# Altium footprint library Components.PcbLib: 155 footprints (part 9 of 10)
Each footprint in its own frame and in the unit in brackets; x right, y up, seen from the top. Pads: shape width x height; smd on the part's side, far side on the other; paste and mask are expansions set on the pad; w line width, h text height; cw(c..) or ccw(c..) is an arc to the next point about the centre after c.
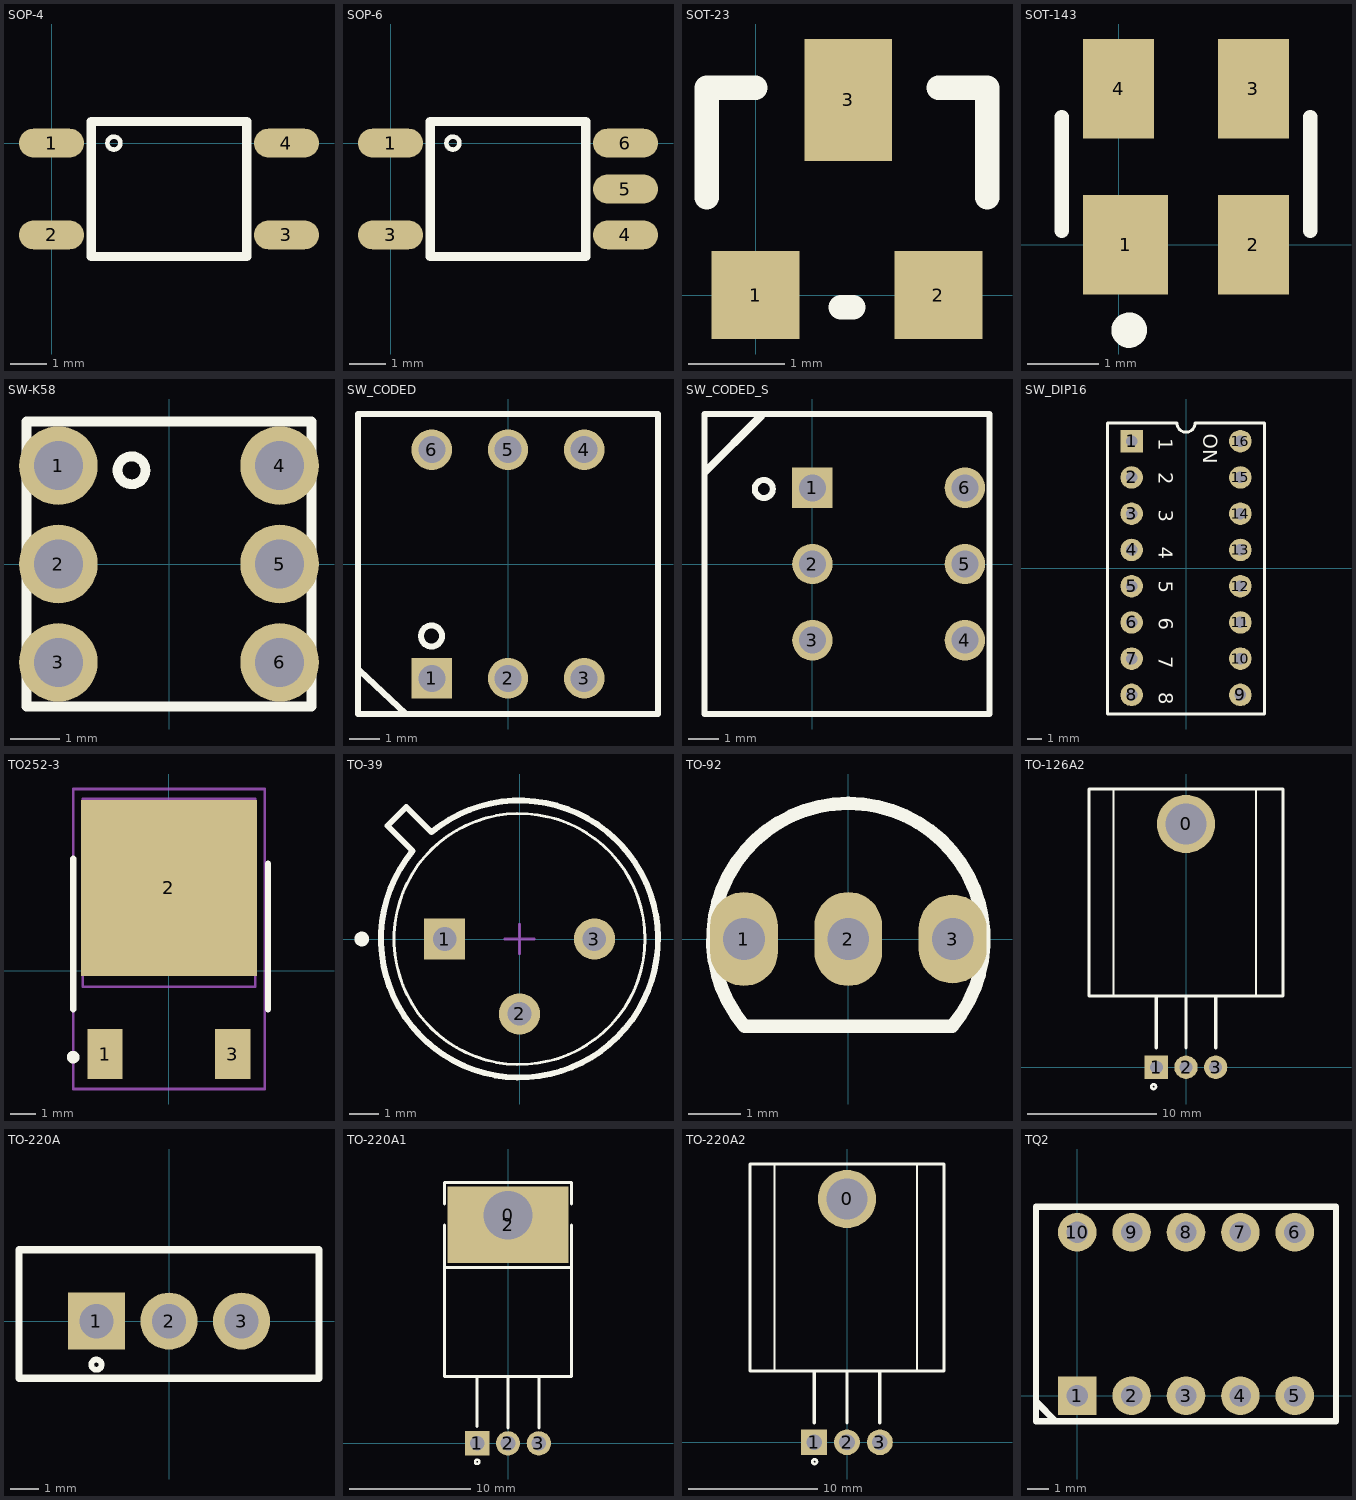
[diagram p8: the footprints below, top view; thin cyan lines are the x and y axes]

## SOP-4 [mm]
pads (4):
  oval 1.8x0.8 smd: 1(0,0) 2(0,-2.54) 3(6.5,-2.54) 4(6.5,0)
Top Overlay:
  circle w0.127: c1.725,0 r0.18
  lines w0.254: 1.1,-3.14 5.4,-3.14 5.4,0.6 1.1,0.6 1.1,-3.14

## SOP-6 [mm]
pads (5):
  oval 1.8x0.8 smd: 1(0,0) 3(0,-2.54) 4(6.5,-2.54) 5(6.5,-1.27) 6(6.5,0)
Top Overlay:
  circle w0.127: c1.725,0 r0.18
  lines w0.254: 1.1,-3.14 1.1,0.6 5.4,0.6 5.4,-3.14 1.1,-3.14

## SOT-23 [mil]
pads (3):
  rect 36x36 smd: 1(0,0) 2(75,0)
  rect 36x50 smd: 3(38,80)
Top Overlay:
  lines w10: -20,40 -20,85 0,85 ; 35,-5 40,-5 ; 75,85 95,85 95,40

## SOT-143 [mm]
pads (4):
  rect 1.2x1.4 smd: 1(0.1,0)
  rect 1x1.4 smd: 2(1.9,0) 3(1.9,2.2) 4(0,2.2)
Top Overlay:
  circle w0.25: c0.15,-1.2 r0.125
  lines w0.2: -0.8,0.2 -0.8,1.8 ; 2.7,0.2 2.7,1.8

## SW-K58 [mm] "SW-K58"
pads (6):
  round 1.6 hole 1: 1(-2.25,2) 2(-2.25,0) 3(-2.25,-2) 4(2.25,2) 5(2.25,0) 6(2.25,-2)
Top Overlay:
  circle w0.2: c-0.762,1.905 r0.284
  lines w0.2: -2.9,-2.9 2.9,-2.9 2.9,2.9 -2.9,2.9 -2.9,-2.9

## SW_CODED [mm] "Rotary Coded Switch"
pads (6):
  rect 1.35x1.35 hole 0.9: 1(-2.54,-3.81)
  round 1.35 hole 0.9: 2(0,-3.81) 3(2.54,-3.81) 4(2.54,3.81) 5(0,3.81) 6(-2.54,3.81)
Top Overlay:
  circle w0.2: c-2.55,-2.4 r0.35
  lines w0.2: -5,-5 5,-5 5,5 -5,5 -5,-4.97 ; -4.953,-3.55 -3.4,-5

## SW_CODED_S [mm]
pads (6):
  rect 1.35x1.35 hole 0.9: 1(0,2.54)
  round 1.35 hole 0.9: 2(0,0) 3(0,-2.54) 4(5.08,-2.54) 5(5.08,0) 6(5.08,2.54)
Top Overlay:
  circle w0.2: c-1.624,2.5 r0.3
  lines w0.2: -3.6,-5 5.9,-5 5.9,5 -3.6,5 -3.6,-5
  lines w0.254: -3.575,3.075 -1.7,4.95

## SW_DIP16 [mil]
pads (16):
  rect 62x62 hole 31.5: 1(-150,350)
  round 62 hole 31.5: 2(-150,250) 3(-150,150) 4(-150,50) 5(-150,-50) 6(-150,-150) 7(-150,-250) 8(-150,-350) 9(150,-350) 10(150,-250) 11(150,-150) 12(150,-50) 13(150,50) 14(150,150) 15(150,250) 16(150,350)
Top Overlay:
  lines w8: -216.93,-402.76 216.93,-402.76 216.93,400 25,400 cw(c0,400) -25,400 -216.93,400 -216.93,-402.76
  text "1" at -74.8,358.27 h39.37
  text "2" at -74.8,263.78 h39.37
  text "3" at -74.8,161.42 h39.37
  text "4" at -74.8,59.06 h39.37
  text "5" at -74.8,-35.43 h39.37
  text "6" at -74.8,-137.8 h39.37
  text "7" at -74.8,-244.09 h39.37
  text "8" at -74.8,-342.52 h39.37
  text "ON" at 47.24,370.08 h39.37

## TO252-3 [mm] "D2-PAK"
height 4.69
pads (3):
  rect 1.4x2 smd: 1(-2.54,-3.302) 3(2.54,-3.302)
  rect 7x7 smd: 2(0,3.302)
Top Overlay:
  circle w0.25: c-3.81,-3.427 r0.125
  lines w0.254: -3.81,-1.524 -3.81,4.467 ; 3.937,-1.524 3.937,4.267
Mechanical 13:
  lines w0.1: -3.429,-0.635 3.429,-0.635 3.429,6.858 -3.429,6.858 -3.429,-0.635
Mechanical 15:
  lines w0.1: -0.5,3.556 0.5,3.556 ; 0,3.056 0,4.056 ; -3.81,-4.694 3.81,-4.694 3.81,7.239 -3.81,7.239 -3.81,-4.694
3D body "User Library-DPAK-1.STEP": height 2.39, standoff -0.02, extent -3.27,-3.81 3.27,6.128

## TO-39 [mm] "Can; 3 Leads; Pin Circle Dia. 5.08 mm; Lead Dia. 0.48 mm (max)"
height 4.55
pads (3):
  rect 1.4x1.4 hole 0.8: 1(-2.54,0)
  round 1.4 hole 0.8: 2(0,-2.54) 3(2.54,0)
Top Overlay:
  circle w0.25: c-5.35,0 r0.125
  circle w0.1: c0,0 r4.255
  lines w0.2: -3.626,2.99 -4.475,3.838 -3.838,4.475 -2.99,3.626 ; -3.622,2.987 ccw(c0,0) -2.987,3.622
Mechanical 15:
  lines w0.1: -0.5,0 0.5,0 ; 0,-0.5 0,0.5

## TO-92 [mm]
pads (3):
  oval 1.3x1.8 hole 0.8: 1(-2,0) 2(0,0)
  oval 1.3x1.7 hole 0.8: 3(2,0)
Top Overlay:
  lines w0.254: -1.992,-1.671 cw(c0,0) 1.992,-1.671 -1.992,-1.671

## TO-126A2 [mm]
height 4.5
pads (4):
  round 4.5 hole 3.2: 0(0,18.796)
  rect 1.8x1.8 hole 1: 1(-2.29,0)
  round 1.8 hole 1: 2(0,0) 3(2.29,0)
Top Overlay:
  circle w0.2: c-2.5,-1.5 r0.18
  lines w0.152: -5.6,5.6 -5.6,21.5 ; 5.4,5.5 5.4,21.5
  lines w0.254: -2.29,1.5 -2.29,5.5 ; 0,1.5 0,5.5 ; 2.29,1.5 2.29,5.373 ; -7.5,5.5 -7.5,21.5 7.5,21.5 7.5,5.5 -7.5,5.5

## TO-220A [mm]
height 4.5
pads (3):
  rect 2x2 hole 1.2: 1(-2.54,0)
  round 2 hole 1.2: 2(0,0) 3(2.54,0)
Top Overlay:
  circle w0.2: c-2.54,-1.524 r0.18
  lines w0.254: -5.25,-2 -5.25,2.5 5.25,2.5 5.25,-2 -5.25,-2

## TO-220A1 [mm]
height 4.5
pads (5):
  round 4 hole 4: 0(0,18.796)
  rect 2x2 hole 1.2: 1(-2.54,0)
  round 2 hole 1.2: 2(0,0) 3(2.54,0)
  rect 10x6.3 smd: 2(0,18.034)
Top Overlay:
  circle w0.2: c-2.54,-1.524 r0.18
  lines w0.254: -5.25,14.5 5.25,14.5 ; -5.25,18 -5.25,5.5 5.25,5.5 5.25,18 ; -5.25,19.728 -5.25,21.5 5.25,21.5 5.25,19.728 ; -2.54,1.397 -2.54,5.5 ; 0,1.27 0,5.5 ; 2.54,1.27 2.54,5.373

## TO-220A2 [mm]
height 4.5
pads (4):
  round 4.5 hole 3.2: 0(0,18.796)
  rect 2x2 hole 1.2: 1(-2.54,0)
  round 2 hole 1.2: 2(0,0) 3(2.54,0)
Top Overlay:
  circle w0.2: c-2.5,-1.5 r0.18
  lines w0.152: -5.6,5.6 -5.6,21.5 ; 5.4,5.5 5.4,21.5
  lines w0.254: -2.54,1.5 -2.54,5.5 ; 0,1.5 0,5.5 ; 2.54,1.5 2.54,5.373 ; -7.5,5.5 7.5,5.5 7.5,21.5 -7.5,21.5 -7.5,5.5

## TQ2 [mm]
pads (10):
  rect 1.8x1.8 hole 1: 1(0,0)
  round 1.8 hole 1: 2(2.54,0) 3(5.08,0) 4(7.62,0) 5(10.16,0) 6(10.16,7.62) 7(7.62,7.62) 8(5.08,7.62) 9(2.54,7.62) 10(0,7.62)
Top Overlay:
  lines w0.152: -1.92,-0.3 -1.9,-0.3 ; -1.01,-1.19 -1,-1.19 -1,-1.12
  lines w0.3: -1.9,-0.3 -1.01,-1.19 ; -1.92,-1.19 12.08,-1.19 12.08,8.81 -1.92,8.81 -1.92,-1.19